# Altium schematic symbol library Report.SchLib: 27 symbols
Pins are listed as number, name and electrical type; pins without a type are passive.

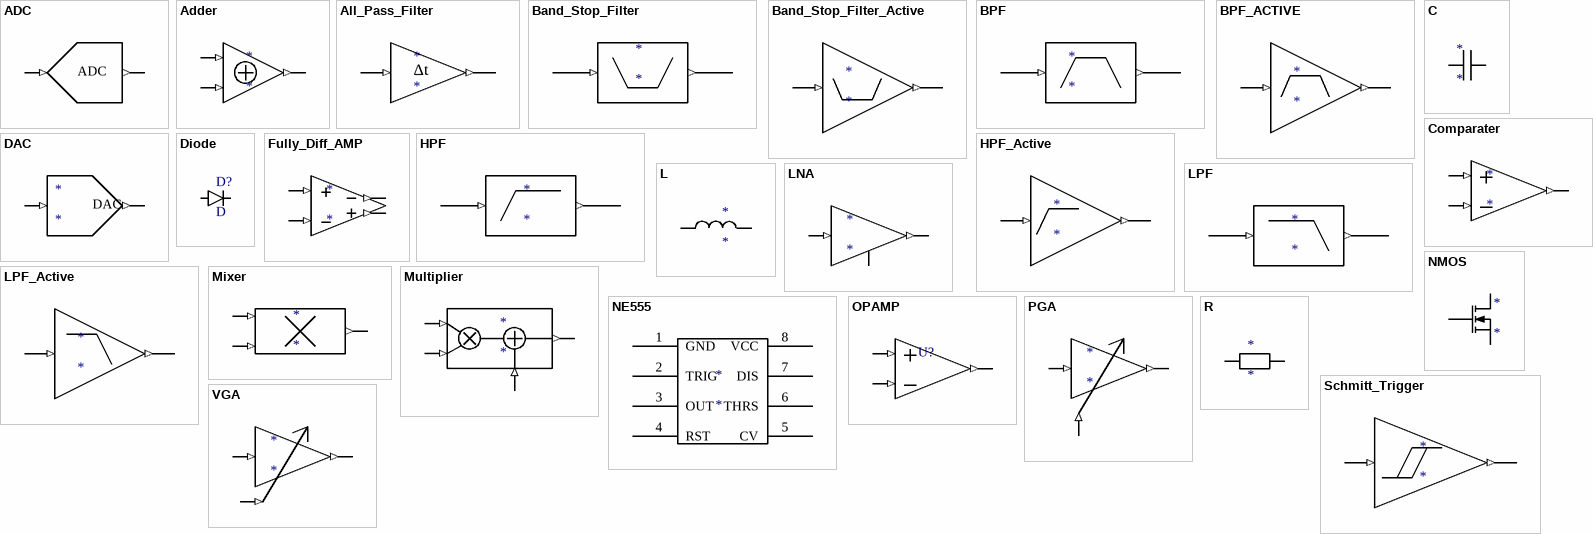
[diagram p0: symbols ADC to VGA]

## ADC
designator *  (value not drawn)
pins: 27 (in), 28 (out)

## Adder
designator *
pins: 19 (in), 20 (in), 20 (out)

## All_Pass_Filter
designator *
pins: 14 (in), 14 (out)
text: Δt

## Band_Stop_Filter
designator *
pins: 16 (in), 17 (out)

## Band_Stop_Filter_Active
designator *
pins: 18 (in), 18 (out)

## BPF
designator *
pins: 16 (in), 17 (out)

## BPF_ACTIVE
designator *
pins: 18 (in), 18 (out)

## C
designator *
pins: 25, 25

## Comparater
designator *
pins: 14 (in), 14 (out), 15 (in)

## DAC
designator *
pins: 27 (out), 28 (in)

## Diode
designator D?, comment D
pins: 1 Anode, 2 Cathode

## Fully_Diff_AMP
designator *
pins: 14 (in), 14 (out), 14 (out), 15 (in)

## HPF
designator *
pins: 16 (in), 17 (out)

## HPF_Active
designator *
pins: 18 (in), 18 (out)

## L
designator *
pins: 26, 26

## LNA
designator *
pins: 14 (in), 14 (out), 15

## LPF
designator *
pins: 16 (in), 17 (out)

## LPF_Active
designator *
pins: 18 (in), 18 (out)

## Mixer
designator *
pins: 29 (in), 30 (in), 30 (out)

## Multiplier
designator *
pins: 21 (in), 22 (in), 22 (in), 23 (out)

## NE555
designator *
pins: 1 GND, 2 TRIG, 3 OUT, 4 RST, 5 CV, 6 THRS, 7 DIS, 8 VCC

## NMOS
designator *
pins: 1 G, 2 D, 3 S

## OPAMP
designator U?
pins: 14 (in), 14 (out), 15 (in)

## PGA
designator *
pins: 14 (in), 14 (out), 15 (in)

## R
designator *
pins: 24, 24

## Schmitt_Trigger
designator *
pins: 16 (in), 17 (out)

## VGA
designator *
pins: 14 (in), 14 (out), 15 (in)